# Altium schematic symbol library 0402 51R.Schlib: 1 symbol
Pins are listed as number, name and electrical type; pins without a type are passive.

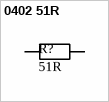
[diagram p0: symbol 0402 51R]

## 0402 51R
designator R?, comment value 51R  (hidden comment: Resistor)
±1% ±200ppm/℃ 1/16W 51Ω 0402 Chip Resistor - Surface Mount ROHS; LCSC Part #: C25125
footprint RES 0402_1005 RF (Chip Resistor, 2-Leads, Body 1.0x0.5mm, IPC High Density)
pins: 1, 2